# Altium footprint library VLS5045EX-3R3N.PcbLib: 1 footprints
Each footprint in its own frame and in the unit in brackets; x right, y up, seen from the top. Pads: shape width x height; smd on the part's side, far side on the other; paste and mask are expansions set on the pad; w line width, h text height; cw(c..) or ccw(c..) is an arc to the next point about the centre after c.
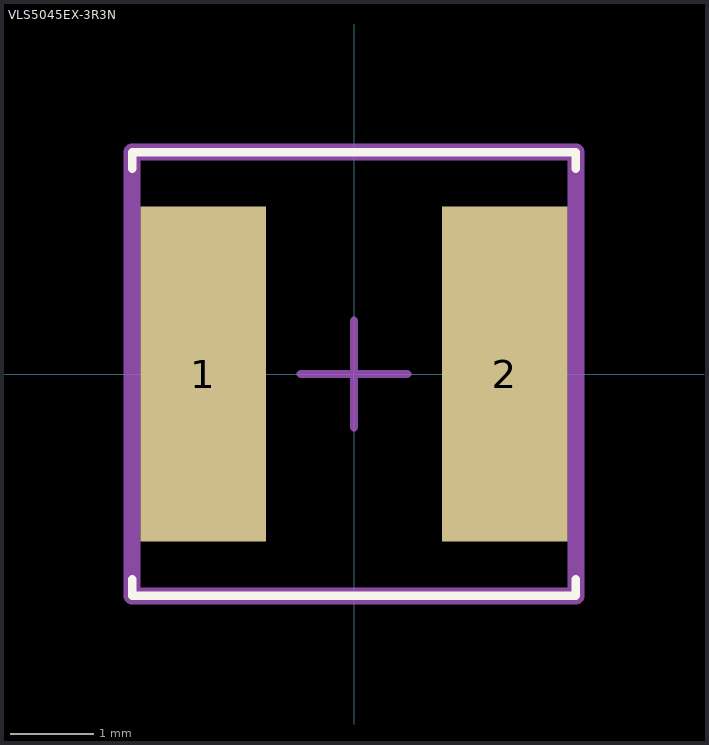
[diagram p0: the footprint, top view; thin cyan lines are the x and y axes]

## VLS5045EX-3R3N [mm] "A footprint for VLS5045EX-3R3N"
height 4.5
pads (2):
  rect 1.5x4 smd mask+0: 1(-1.8,0) 2(1.8,0)
Top Overlay:
  lines w0.1: -2.65,-2.45 -2.65,-2.65 2.65,-2.65 2.65,-2.45 ; -2.65,2.45 -2.65,2.65 2.65,2.65 2.65,2.45
Mechanical 13:
  lines w0.2: -2.65,-2.65 2.65,-2.65 2.65,2.65 -2.65,2.65 -2.65,-2.65
Mechanical 15:
  lines w0.1: -0.635,0 0,0 ; 0,-0.635 0,0 ; 0,0.635 0,0 ; 0.635,0 0,0
3D body "VLS5045EX-3R3N_3dmodel.stp": height 4.5, standoff 0, extent -2.5,-2.5 2.5,2.5